# Altium footprint library Resistors SMD.PcbLib: 3 footprints
Each footprint in its own frame and in the unit in brackets; x right, y up, seen from the top. Pads: shape width x height; smd on the part's side, far side on the other; paste and mask are expansions set on the pad; w line width, h text height; cw(c..) or ccw(c..) is an arc to the next point about the centre after c.
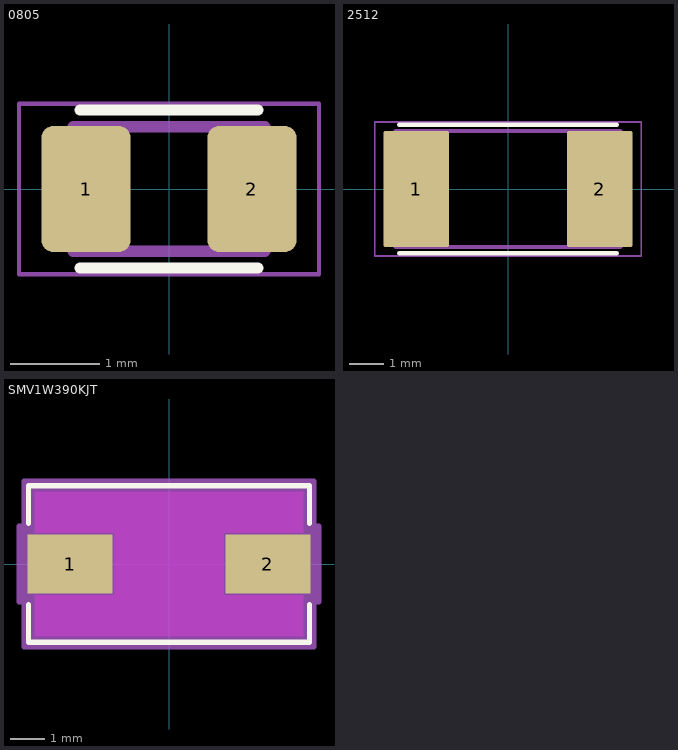
[diagram p0: the footprints below, top view; thin cyan lines are the x and y axes]

## 0805 [mm]
pads (2):
  rrect25% 1x1.42 smd: 1(-0.935,0) 2(0.935,0)
Top Overlay:
  lines w0.127: -1,-0.89 1,-0.89 ; -1,0.89 1,0.89
Mechanical 13:
  lines w0.127: -1.08,-0.7 1.08,-0.7 1.08,0.7 -1.08,0.7 -1.08,-0.7
Mechanical 15:
  lines w0.05: -1.69,-0.96 1.69,-0.96 1.69,0.96 -1.69,0.96 -1.69,-0.96
3D body "step_temp.STEP": height 0.6, standoff 0, extent -1,-0.625 1,0.625

## 2512 [mm]
pads (2):
  rrect7% 1.9x3.37 smd: 1(-2.66,0) 2(2.66,0)
Top Overlay:
  lines w0.127: -3.15,-1.865 3.15,-1.865 ; -3.15,1.865 3.15,1.865
Mechanical 13:
  lines w0.127: -3.25,-1.68 3.25,-1.68 3.25,1.68 -3.25,1.68 -3.25,-1.68
Mechanical 15:
  lines w0.05: -3.86,-1.94 3.86,-1.94 3.86,1.94 -3.86,1.94 -3.86,-1.94
3D body "2-1625827-1.STEP": height 0.65, standoff 0, extent -3.048,-1.727 3.302,1.473

## SMV1W390KJT [mil]
pads (2):
  rect 97x67 smd paste+0 mask+0: 1(-113,0) 2(113,0)
Top Layer keep-out:
  region: -153.5,-82.5 -153.5,-35.5 153.5,-35.5 153.5,-82.5
  region: -153.5,35.5 -153.5,82.5 153.5,82.5 153.5,35.5
  region: -62.5,-35.5 -62.5,35.5 62.5,35.5 62.5,-35.5
Top Overlay:
  lines w6: -160.5,-46.6 -160.5,-89.5 160.5,-89.5 160.5,-46.6 ; -160.5,46.6 -160.5,89.5 160.5,89.5 160.5,46.6
Keep-Out Layer:
  region: -62.5,-35.5 -62.5,35.5 62.5,35.5 62.5,-35.5
Mechanical 13:
  lines w1: -155.5,-84.5 -155.5,84.5 155.5,84.5 155.5,-84.5 -155.5,-84.5
Mechanical 15:
  region: -165.5,-43.5 -171.5,-43.5 -171.5,43.5 -165.5,43.5 -165.5,94.5 165.5,94.5 165.5,43.5 171.5,43.5 171.5,-43.5 165.5,-43.5 165.5,-94.5 -165.5,-94.5
  lines w6: -171.5,-43.5 -165.5,-43.5 -165.5,-94.5 165.5,-94.5 165.5,-43.5 171.5,-43.5 171.5,43.5 165.5,43.5 165.5,94.5 -165.5,94.5 -165.5,43.5 -171.5,43.5 -171.5,-43.5
3D body "RES_SMV1W_TEC.step": height 152.01, standoff 0, extent -155.51,-84.49 155.51,84.49